# Altium integrated library Altium_WE-TPC_rev22d.IntLib: 258 symbols (part 1 of 5)
Pins are listed as number, name and electrical type; pins without a type are passive.

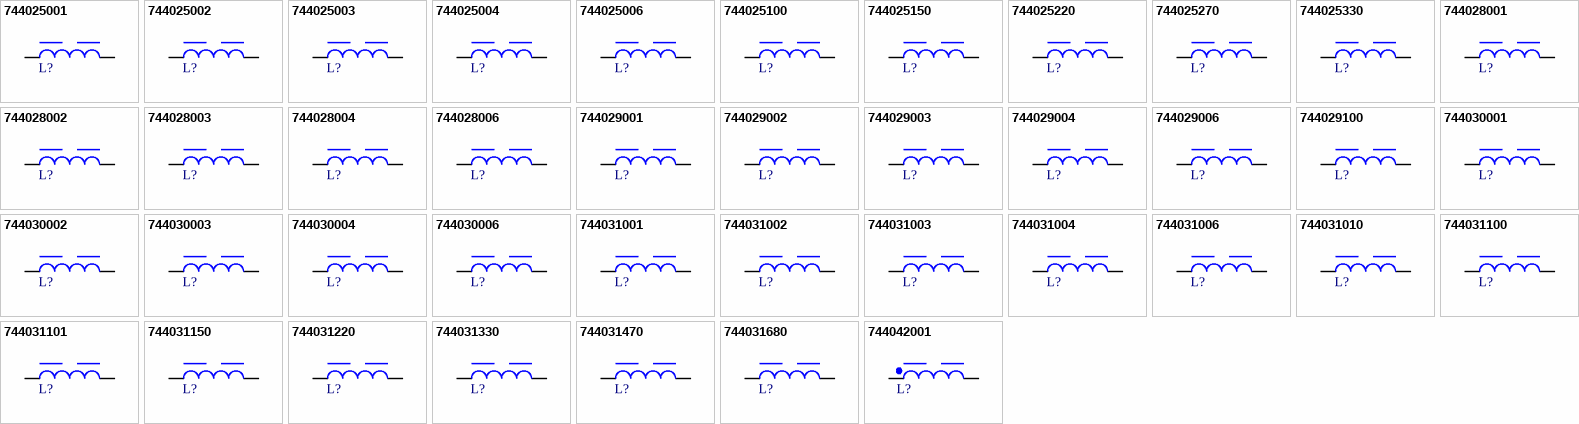
[diagram p0: symbols 744025001 to 744042001]

## 744025001
designator L?, comment 1.2uH, 2.6A  (value not drawn)
WE-TPC SMT Tiny Power Inductor, size 2828, 1.2uH, 2.6A, 36mOhm; Manufacturer Part Number: 744025001; Manufacturer: Wurth Elektronik; Case/Size Code: 2828; Saturation Current: 3A; Self Resonant Frequency: 180MHz; Category: Power Inductors; Match Code: WE-TPC; ComponentLink1Description: Website Link; ComponentLink1URL: https://www.we-online.com/redexpert/article/744025001?ad; ComponentLink2Description: Datasheet Link; ComponentLink2URL: https://www.we-online.com/redexpert/spec/744025001?ad; Mount: Surface Mount; Operating Temperature Max: 125°C; Operating Temperature Min: -40°C; Packaging: Tape and Reel; Length: 2.8mm; Width: 2.8mm; Height: 2.8mm; DC Resistance: 36mOhm; Inductance: 1.2uH; Rated Current: 2.6A
footprint WE-TPC_2828
simulation model 2828_744025001_1.2u
pins: 1, 2

## 744025002
designator L?, comment 2.2uH, 1.8A  (value not drawn)
WE-TPC SMT Tiny Power Inductor, size 2828, 2.2uH, 1.8A, 57mOhm; Manufacturer Part Number: 744025002; Manufacturer: Wurth Elektronik; Case/Size Code: 2828; Saturation Current: 2.4A; Self Resonant Frequency: 130MHz; Category: Power Inductors; Match Code: WE-TPC; ComponentLink1Description: Website Link; ComponentLink1URL: https://www.we-online.com/redexpert/article/744025002?ad; ComponentLink2Description: Datasheet Link; ComponentLink2URL: https://www.we-online.com/redexpert/spec/744025002?ad; Mount: Surface Mount; Operating Temperature Max: 125°C; Operating Temperature Min: -40°C; Packaging: Tape and Reel; Length: 2.8mm; Width: 2.8mm; Height: 2.8mm; DC Resistance: 57mOhm; Inductance: 2.2uH; Rated Current: 1.8A
footprint WE-TPC_2828
simulation model 2828_744025002_2.2u
pins: 1, 2

## 744025003
designator L?, comment 3.3uH, 1.5A  (value not drawn)
WE-TPC SMT Tiny Power Inductor, size 2828, 3.3uH, 1.5A, 85mOhm; Manufacturer Part Number: 744025003; Manufacturer: Wurth Elektronik; Case/Size Code: 2828; Saturation Current: 1.8A; Self Resonant Frequency: 100MHz; Category: Power Inductors; Match Code: WE-TPC; ComponentLink1Description: Website Link; ComponentLink1URL: https://www.we-online.com/redexpert/article/744025003?ad; ComponentLink2Description: Datasheet Link; ComponentLink2URL: https://www.we-online.com/redexpert/spec/744025003?ad; Mount: Surface Mount; Operating Temperature Max: 125°C; Operating Temperature Min: -40°C; Packaging: Tape and Reel; Length: 2.8mm; Width: 2.8mm; Height: 2.8mm; DC Resistance: 85mOhm; Inductance: 3.3uH; Rated Current: 1.5A
footprint WE-TPC_2828
simulation model 2828_744025003_3.3u
pins: 1, 2

## 744025004
designator L?, comment 4.7uH, 1.35A  (value not drawn)
WE-TPC SMT Tiny Power Inductor, size 2828, 4.7uH, 1.35A, 100mOhm; Manufacturer Part Number: 744025004; Manufacturer: Wurth Elektronik; Case/Size Code: 2828; Saturation Current: 1.7A; Self Resonant Frequency: 84MHz; Category: Power Inductors; Match Code: WE-TPC; ComponentLink1Description: Website Link; ComponentLink1URL: https://www.we-online.com/redexpert/article/744025004?ad; ComponentLink2Description: Datasheet Link; ComponentLink2URL: https://www.we-online.com/redexpert/spec/744025004?ad; Mount: Surface Mount; Operating Temperature Max: 125°C; Operating Temperature Min: -40°C; Packaging: Tape and Reel; Length: 2.8mm; Width: 2.8mm; Height: 2.8mm; DC Resistance: 100mOhm; Inductance: 4.7uH; Rated Current: 1.35A
footprint WE-TPC_2828
simulation model 2828_744025004_4.7u
pins: 1, 2

## 744025006
designator L?, comment 6.8uH, 1.1A  (value not drawn)
WE-TPC SMT Tiny Power Inductor, size 2828, 6.8uH, 1.1A, 142mOhm; Manufacturer Part Number: 744025006; Manufacturer: Wurth Elektronik; Case/Size Code: 2828; Saturation Current: 1.3A; Self Resonant Frequency: 59MHz; Category: Power Inductors; Match Code: WE-TPC; ComponentLink1Description: Website Link; ComponentLink1URL: https://www.we-online.com/redexpert/article/744025006?ad; ComponentLink2Description: Datasheet Link; ComponentLink2URL: https://www.we-online.com/redexpert/spec/744025006?ad; Mount: Surface Mount; Operating Temperature Max: 125°C; Operating Temperature Min: -40°C; Packaging: Tape and Reel; Length: 2.8mm; Width: 2.8mm; Height: 2.8mm; DC Resistance: 142mOhm; Inductance: 6.8uH; Rated Current: 1.1A
footprint WE-TPC_2828
simulation model 2828_744025006_6.8u
pins: 1, 2

## 744025100
designator L?, comment 10uH, 1A  (value not drawn)
WE-TPC SMT Tiny Power Inductor, size 2828, 10uH, 1A, 170mOhm; Manufacturer Part Number: 744025100; Manufacturer: Wurth Elektronik; Case/Size Code: 2828; Saturation Current: 1.1A; Self Resonant Frequency: 41MHz; Category: Power Inductors; Match Code: WE-TPC; ComponentLink1Description: Website Link; ComponentLink1URL: https://www.we-online.com/redexpert/article/744025100?ad; ComponentLink2Description: Datasheet Link; ComponentLink2URL: https://www.we-online.com/redexpert/spec/744025100?ad; Mount: Surface Mount; Operating Temperature Max: 125°C; Operating Temperature Min: -40°C; Packaging: Tape and Reel; Length: 2.8mm; Width: 2.8mm; Height: 2.8mm; DC Resistance: 170mOhm; Inductance: 10uH; Rated Current: 1A
footprint WE-TPC_2828
simulation model 2828_744025100_10u
pins: 1, 2

## 744025150
designator L?, comment 15uH, 0.72A  (value not drawn)
WE-TPC SMT Tiny Power Inductor, size 2828, 15uH, 0.72A, 356mOhm; Manufacturer Part Number: 744025150; Manufacturer: Wurth Elektronik; Case/Size Code: 2828; Saturation Current: 0.9A; Self Resonant Frequency: 32MHz; Category: Power Inductors; Match Code: WE-TPC; ComponentLink1Description: Website Link; ComponentLink1URL: https://www.we-online.com/redexpert/article/744025150?ad; ComponentLink2Description: Datasheet Link; ComponentLink2URL: https://www.we-online.com/redexpert/spec/744025150?ad; Mount: Surface Mount; Operating Temperature Max: 125°C; Operating Temperature Min: -40°C; Packaging: Tape and Reel; Length: 2.8mm; Width: 2.8mm; Height: 2.8mm; DC Resistance: 356mOhm; Inductance: 15uH; Rated Current: 0.72A
footprint WE-TPC_2828
simulation model 2828_744025150_15u
pins: 1, 2

## 744025220
designator L?, comment 22uH, 0.5A  (value not drawn)
WE-TPC SMT Tiny Power Inductor, size 2828, 22uH, 0.5A, 525mOhm; Manufacturer Part Number: 744025220; Manufacturer: Wurth Elektronik; Case/Size Code: 2828; Saturation Current: 0.75A; Self Resonant Frequency: 23MHz; Category: Power Inductors; Match Code: WE-TPC; ComponentLink1Description: Website Link; ComponentLink1URL: https://www.we-online.com/redexpert/article/744025220?ad; ComponentLink2Description: Datasheet Link; ComponentLink2URL: https://www.we-online.com/redexpert/spec/744025220?ad; Mount: Surface Mount; Operating Temperature Max: 125°C; Operating Temperature Min: -40°C; Packaging: Tape and Reel; Length: 2.8mm; Width: 2.8mm; Height: 2.8mm; DC Resistance: 525mOhm; Inductance: 22uH; Rated Current: 0.5A
footprint WE-TPC_2828
simulation model 2828_744025220_22u
pins: 1, 2

## 744025270
designator L?, comment 27uH, 0.45A  (value not drawn)
WE-TPC SMT Tiny Power Inductor, size 2828, 27uH, 0.45A, 745mOhm; Manufacturer Part Number: 744025270; Manufacturer: Wurth Elektronik; Case/Size Code: 2828; Saturation Current: 0.67A; Self Resonant Frequency: 15MHz; Category: Power Inductors; Match Code: WE-TPC; ComponentLink1Description: Website Link; ComponentLink1URL: https://www.we-online.com/redexpert/article/744025270?ad; ComponentLink2Description: Datasheet Link; ComponentLink2URL: https://www.we-online.com/redexpert/spec/744025270?ad; Mount: Surface Mount; Operating Temperature Max: 125°C; Operating Temperature Min: -40°C; Packaging: Tape and Reel; Length: 2.8mm; Width: 2.8mm; Height: 2.8mm; DC Resistance: 745mOhm; Inductance: 27uH; Rated Current: 0.45A
footprint WE-TPC_2828
simulation model 2828_744025270_27u
pins: 1, 2

## 744025330
designator L?, comment 33uH, 0.4A  (value not drawn)
WE-TPC SMT Tiny Power Inductor, size 2828, 33uH, 0.4A, 840mOhm; Manufacturer Part Number: 744025330; Manufacturer: Wurth Elektronik; Case/Size Code: 2828; Saturation Current: 0.62A; Self Resonant Frequency: 12MHz; Category: Power Inductors; Match Code: WE-TPC; ComponentLink1Description: Website Link; ComponentLink1URL: https://www.we-online.com/redexpert/article/744025330?ad; ComponentLink2Description: Datasheet Link; ComponentLink2URL: https://www.we-online.com/redexpert/spec/744025330?ad; Mount: Surface Mount; Operating Temperature Max: 125°C; Operating Temperature Min: -40°C; Packaging: Tape and Reel; Length: 2.8mm; Width: 2.8mm; Height: 2.8mm; DC Resistance: 840mOhm; Inductance: 33uH; Rated Current: 0.4A
footprint WE-TPC_2828
simulation model 2828_744025330_33u
pins: 1, 2

## 744028001
designator L?, comment 1uH, 1.75A  (value not drawn)
WE-TPC SMT Tiny Power Inductor, size 2811, 1uH, 1.75A, 65mOhm; Manufacturer Part Number: 744028001; Manufacturer: Wurth Elektronik; Case/Size Code: 2811; Saturation Current: 1.5A; Self Resonant Frequency: 150MHz; Category: Power Inductors; Match Code: WE-TPC; ComponentLink1Description: Website Link; ComponentLink1URL: https://www.we-online.com/redexpert/article/744028001?ad; ComponentLink2Description: Datasheet Link; ComponentLink2URL: https://www.we-online.com/redexpert/spec/744028001?ad; Mount: Surface Mount; Operating Temperature Max: 125°C; Operating Temperature Min: -40°C; Packaging: Tape and Reel; Length: 2.78mm; Width: 2.78mm; Height: 1.1mm; DC Resistance: 65mOhm; Inductance: 1uH; Rated Current: 1.75A
footprint WE-TPC_2811
simulation model 2811_744028001_1u
pins: 1, 2

## 744028002
designator L?, comment 2.2uH, 1.3A  (value not drawn)
WE-TPC SMT Tiny Power Inductor, size 2811, 2.2uH, 1.3A, 125mOhm; Manufacturer Part Number: 744028002; Manufacturer: Wurth Elektronik; Case/Size Code: 2811; Saturation Current: 1A; Self Resonant Frequency: 100MHz; Category: Power Inductors; Match Code: WE-TPC; ComponentLink1Description: Website Link; ComponentLink1URL: https://www.we-online.com/redexpert/article/744028002?ad; ComponentLink2Description: Datasheet Link; ComponentLink2URL: https://www.we-online.com/redexpert/spec/744028002?ad; Mount: Surface Mount; Operating Temperature Max: 125°C; Operating Temperature Min: -40°C; Packaging: Tape and Reel; Length: 2.78mm; Width: 2.78mm; Height: 1.1mm; DC Resistance: 125mOhm; Inductance: 2.2uH; Rated Current: 1.3A
footprint WE-TPC_2811
simulation model 2811_744028002_2.2u
pins: 1, 2

## 744028003
designator L?, comment 3.3uH, 1A  (value not drawn)
WE-TPC SMT Tiny Power Inductor, size 2811, 3.3uH, 1A, 185mOhm; Manufacturer Part Number: 744028003; Manufacturer: Wurth Elektronik; Case/Size Code: 2811; Saturation Current: 0.85A; Self Resonant Frequency: 80MHz; Category: Power Inductors; Match Code: WE-TPC; ComponentLink1Description: Website Link; ComponentLink1URL: https://www.we-online.com/redexpert/article/744028003?ad; ComponentLink2Description: Datasheet Link; ComponentLink2URL: https://www.we-online.com/redexpert/spec/744028003?ad; Mount: Surface Mount; Operating Temperature Max: 125°C; Operating Temperature Min: -40°C; Packaging: Tape and Reel; Length: 2.78mm; Width: 2.78mm; Height: 1.1mm; DC Resistance: 185mOhm; Inductance: 3.3uH; Rated Current: 1A
footprint WE-TPC_2811
simulation model 2811_744028003_3.3u
pins: 1, 2

## 744028004
designator L?, comment 4.7uH, 0.85A  (value not drawn)
WE-TPC SMT Tiny Power Inductor, size 2811, 4.7uH, 0.85A, 265mOhm; Manufacturer Part Number: 744028004; Manufacturer: Wurth Elektronik; Case/Size Code: 2811; Saturation Current: 0.7A; Self Resonant Frequency: 70MHz; Category: Power Inductors; Match Code: WE-TPC; ComponentLink1Description: Website Link; ComponentLink1URL: https://www.we-online.com/redexpert/article/744028004?ad; ComponentLink2Description: Datasheet Link; ComponentLink2URL: https://www.we-online.com/redexpert/spec/744028004?ad; Mount: Surface Mount; Operating Temperature Max: 125°C; Operating Temperature Min: -40°C; Packaging: Tape and Reel; Length: 2.78mm; Width: 2.78mm; Height: 1.1mm; DC Resistance: 265mOhm; Inductance: 4.7uH; Rated Current: 0.85A
footprint WE-TPC_2811
simulation model 2811_744028004_4.7u
pins: 1, 2

## 744028006
designator L?, comment 6.8uH, 0.75A  (value not drawn)
WE-TPC SMT Tiny Power Inductor, size 2811, 6.8uH, 0.75A, 325mOhm; Manufacturer Part Number: 744028006; Manufacturer: Wurth Elektronik; Case/Size Code: 2811; Saturation Current: 0.55A; Self Resonant Frequency: 60MHz; Category: Power Inductors; Match Code: WE-TPC; ComponentLink1Description: Website Link; ComponentLink1URL: https://www.we-online.com/redexpert/article/744028006?ad; ComponentLink2Description: Datasheet Link; ComponentLink2URL: https://www.we-online.com/redexpert/spec/744028006?ad; Mount: Surface Mount; Operating Temperature Max: 125°C; Operating Temperature Min: -40°C; Packaging: Tape and Reel; Length: 2.78mm; Width: 2.78mm; Height: 1.1mm; DC Resistance: 325mOhm; Inductance: 6.8uH; Rated Current: 0.75A
footprint WE-TPC_2811
simulation model 2811_744028006_6.8u
pins: 1, 2

## 744029001
designator L?, comment 1uH, 2.2A  (value not drawn)
WE-TPC SMT Tiny Power Inductor, size 2813, 1uH, 2.2A, 45mOhm; Manufacturer Part Number: 744029001; Manufacturer: Wurth Elektronik; Case/Size Code: 2813; Saturation Current: 1.6A; Self Resonant Frequency: 150MHz; Category: Power Inductors; Match Code: WE-TPC; ComponentLink1Description: Website Link; ComponentLink1URL: https://www.we-online.com/redexpert/article/744029001?ad; ComponentLink2Description: Datasheet Link; ComponentLink2URL: https://www.we-online.com/redexpert/spec/744029001?ad; Mount: Surface Mount; Operating Temperature Max: 125°C; Operating Temperature Min: -40°C; Packaging: Tape and Reel; Length: 2.78mm; Width: 2.78mm; Height: 1.35mm; DC Resistance: 45mOhm; Inductance: 1uH; Rated Current: 2.2A
footprint WE-TPC_2813
simulation model 2813_744029001_1u
pins: 1, 2

## 744029002
designator L?, comment 2.2uH, 1.5A  (value not drawn)
WE-TPC SMT Tiny Power Inductor, size 2813, 2.2uH, 1.5A, 88mOhm; Manufacturer Part Number: 744029002; Manufacturer: Wurth Elektronik; Case/Size Code: 2813; Saturation Current: 1.15A; Self Resonant Frequency: 90MHz; Category: Power Inductors; Match Code: WE-TPC; ComponentLink1Description: Website Link; ComponentLink1URL: https://www.we-online.com/redexpert/article/744029002?ad; ComponentLink2Description: Datasheet Link; ComponentLink2URL: https://www.we-online.com/redexpert/spec/744029002?ad; Mount: Surface Mount; Operating Temperature Max: 125°C; Operating Temperature Min: -40°C; Packaging: Tape and Reel; Length: 2.78mm; Width: 2.78mm; Height: 1.35mm; DC Resistance: 88mOhm; Inductance: 2.2uH; Rated Current: 1.5A
footprint WE-TPC_2813
simulation model 2813_744029002_2.2u
pins: 1, 2

## 744029003
designator L?, comment 3.3uH, 1.25A  (value not drawn)
WE-TPC SMT Tiny Power Inductor, size 2813, 3.3uH, 1.25A, 110mOhm; Manufacturer Part Number: 744029003; Manufacturer: Wurth Elektronik; Case/Size Code: 2813; Saturation Current: 0.95A; Self Resonant Frequency: 70MHz; Category: Power Inductors; Match Code: WE-TPC; ComponentLink1Description: Website Link; ComponentLink1URL: https://www.we-online.com/redexpert/article/744029003?ad; ComponentLink2Description: Datasheet Link; ComponentLink2URL: https://www.we-online.com/redexpert/spec/744029003?ad; Mount: Surface Mount; Operating Temperature Max: 125°C; Operating Temperature Min: -40°C; Packaging: Tape and Reel; Length: 2.78mm; Width: 2.78mm; Height: 1.35mm; DC Resistance: 110mOhm; Inductance: 3.3uH; Rated Current: 1.25A
footprint WE-TPC_2813
simulation model 2813_744029003_3.3u
pins: 1, 2

## 744029004
designator L?, comment 4.7uH, 1A  (value not drawn)
WE-TPC SMT Tiny Power Inductor, size 2813, 4.7uH, 1A, 170mOhm; Manufacturer Part Number: 744029004; Manufacturer: Wurth Elektronik; Case/Size Code: 2813; Saturation Current: 0.8A; Self Resonant Frequency: 65MHz; Category: Power Inductors; Match Code: WE-TPC; ComponentLink1Description: Website Link; ComponentLink1URL: https://www.we-online.com/redexpert/article/744029004?ad; ComponentLink2Description: Datasheet Link; ComponentLink2URL: https://www.we-online.com/redexpert/spec/744029004?ad; Mount: Surface Mount; Operating Temperature Max: 125°C; Operating Temperature Min: -40°C; Packaging: Tape and Reel; Length: 2.78mm; Width: 2.78mm; Height: 1.35mm; DC Resistance: 170mOhm; Inductance: 4.7uH; Rated Current: 1A
footprint WE-TPC_2813
simulation model 2813_744029004_4.7u
pins: 1, 2

## 744029006
designator L?, comment 6.8uH, 0.82A  (value not drawn)
WE-TPC SMT Tiny Power Inductor, size 2813, 6.8uH, 0.82A, 250mOhm; Manufacturer Part Number: 744029006; Manufacturer: Wurth Elektronik; Case/Size Code: 2813; Saturation Current: 0.65A; Self Resonant Frequency: 55MHz; Category: Power Inductors; Match Code: WE-TPC; ComponentLink1Description: Website Link; ComponentLink1URL: https://www.we-online.com/redexpert/article/744029006?ad; ComponentLink2Description: Datasheet Link; ComponentLink2URL: https://www.we-online.com/redexpert/spec/744029006?ad; Mount: Surface Mount; Operating Temperature Max: 125°C; Operating Temperature Min: -40°C; Packaging: Tape and Reel; Length: 2.78mm; Width: 2.78mm; Height: 1.35mm; DC Resistance: 250mOhm; Inductance: 6.8uH; Rated Current: 0.82A
footprint WE-TPC_2813
simulation model 2813_744029006_6.8u
pins: 1, 2

## 744029100
designator L?, comment 10uH, 0.65A  (value not drawn)
WE-TPC SMT Tiny Power Inductor, size 2813, 10uH, 0.65A, 390mOhm; Manufacturer Part Number: 744029100; Manufacturer: Wurth Elektronik; Case/Size Code: 2813; Saturation Current: 0.5A; Self Resonant Frequency: 40MHz; Category: Power Inductors; Match Code: WE-TPC; ComponentLink1Description: Website Link; ComponentLink1URL: https://www.we-online.com/redexpert/article/744029100?ad; ComponentLink2Description: Datasheet Link; ComponentLink2URL: https://www.we-online.com/redexpert/spec/744029100?ad; Mount: Surface Mount; Operating Temperature Max: 125°C; Operating Temperature Min: -40°C; Packaging: Tape and Reel; Length: 2.78mm; Width: 2.78mm; Height: 1.35mm; DC Resistance: 390mOhm; Inductance: 10uH; Rated Current: 0.65A
footprint WE-TPC_2813
simulation model 2813_744029100_10u
pins: 1, 2

## 744030001
designator L?, comment 1.2uH, 1A  (value not drawn)
WE-TPC SMT Tiny Power Inductor, size 3510, 1.2uH, 1A, 95mOhm; Manufacturer Part Number: 744030001; Manufacturer: Wurth Elektronik; Case/Size Code: 3510; Saturation Current: 1.1A; Self Resonant Frequency: 210MHz; Category: Power Inductors; Match Code: WE-TPC; ComponentLink1Description: Website Link; ComponentLink1URL: https://www.we-online.com/redexpert/article/744030001?ad; ComponentLink2Description: Datasheet Link; ComponentLink2URL: https://www.we-online.com/redexpert/spec/744030001?ad; Mount: Surface Mount; Operating Temperature Max: 125°C; Operating Temperature Min: -40°C; Packaging: Tape and Reel; Length: 3.3mm; Width: 3.5mm; Height: 0.95mm; DC Resistance: 95mOhm; Inductance: 1.2uH; Rated Current: 1A
footprint WE-TPC_3510
simulation model 3510_744030001_1.2u
pins: 1, 2

## 744030002
designator L?, comment 2.2uH, 0.74A  (value not drawn)
WE-TPC SMT Tiny Power Inductor, size 3510, 2.2uH, 0.74A, 140mOhm; Manufacturer Part Number: 744030002; Manufacturer: Wurth Elektronik; Case/Size Code: 3510; Saturation Current: 0.8A; Self Resonant Frequency: 140MHz; Category: Power Inductors; Match Code: WE-TPC; ComponentLink1Description: Website Link; ComponentLink1URL: https://www.we-online.com/redexpert/article/744030002?ad; ComponentLink2Description: Datasheet Link; ComponentLink2URL: https://www.we-online.com/redexpert/spec/744030002?ad; Mount: Surface Mount; Operating Temperature Max: 125°C; Operating Temperature Min: -40°C; Packaging: Tape and Reel; Length: 3.3mm; Width: 3.5mm; Height: 0.95mm; DC Resistance: 140mOhm; Inductance: 2.2uH; Rated Current: 0.74A
footprint WE-TPC_3510
simulation model 3510_744030002_2.2u
pins: 1, 2

## 744030003
designator L?, comment 3.3uH, 0.65A  (value not drawn)
WE-TPC SMT Tiny Power Inductor, size 3510, 3.3uH, 0.65A, 198mOhm; Manufacturer Part Number: 744030003; Manufacturer: Wurth Elektronik; Case/Size Code: 3510; Saturation Current: 0.72A; Self Resonant Frequency: 130MHz; Category: Power Inductors; Match Code: WE-TPC; ComponentLink1Description: Website Link; ComponentLink1URL: https://www.we-online.com/redexpert/article/744030003?ad; ComponentLink2Description: Datasheet Link; ComponentLink2URL: https://www.we-online.com/redexpert/spec/744030003?ad; Mount: Surface Mount; Operating Temperature Max: 125°C; Operating Temperature Min: -40°C; Packaging: Tape and Reel; Length: 3.3mm; Width: 3.5mm; Height: 0.95mm; DC Resistance: 198mOhm; Inductance: 3.3uH; Rated Current: 0.65A
footprint WE-TPC_3510
simulation model 3510_744030003_3.3u
pins: 1, 2

## 744030004
designator L?, comment 4.7uH, 0.48A  (value not drawn)
WE-TPC SMT Tiny Power Inductor, size 3510, 4.7uH, 0.48A, 252mOhm; Manufacturer Part Number: 744030004; Manufacturer: Wurth Elektronik; Case/Size Code: 3510; Saturation Current: 0.5A; Self Resonant Frequency: 100MHz; Category: Power Inductors; Match Code: WE-TPC; ComponentLink1Description: Website Link; ComponentLink1URL: https://www.we-online.com/redexpert/article/744030004?ad; ComponentLink2Description: Datasheet Link; ComponentLink2URL: https://www.we-online.com/redexpert/spec/744030004?ad; Mount: Surface Mount; Operating Temperature Max: 125°C; Operating Temperature Min: -40°C; Packaging: Tape and Reel; Length: 3.3mm; Width: 3.5mm; Height: 0.95mm; DC Resistance: 252mOhm; Inductance: 4.7uH; Rated Current: 0.48A
footprint WE-TPC_3510
simulation model 3510_744030004_4.7u
pins: 1, 2

## 744030006
designator L?, comment 6.8uH, 0.4A  (value not drawn)
WE-TPC SMT Tiny Power Inductor, size 3510, 6.8uH, 0.4A, 400mOhm; Manufacturer Part Number: 744030006; Manufacturer: Wurth Elektronik; Case/Size Code: 3510; Saturation Current: 0.43A; Self Resonant Frequency: 85MHz; Category: Power Inductors; Match Code: WE-TPC; ComponentLink1Description: Website Link; ComponentLink1URL: https://www.we-online.com/redexpert/article/744030006?ad; ComponentLink2Description: Datasheet Link; ComponentLink2URL: https://www.we-online.com/redexpert/spec/744030006?ad; Mount: Surface Mount; Operating Temperature Max: 125°C; Operating Temperature Min: -40°C; Packaging: Tape and Reel; Length: 3.3mm; Width: 3.5mm; Height: 0.95mm; DC Resistance: 400mOhm; Inductance: 6.8uH; Rated Current: 0.4A
footprint WE-TPC_3510
simulation model 3510_744030006_6.8u
pins: 1, 2

## 744031001
designator L?, comment 1.5uH, 1.75A  (value not drawn)
WE-TPC SMT Tiny Power Inductor, size 3816, 1.5uH, 1.75A, 40mOhm; Manufacturer Part Number: 744031001; Manufacturer: Wurth Elektronik; Case/Size Code: 3816; Saturation Current: 1.55A; Self Resonant Frequency: 125MHz; Category: Power Inductors; Match Code: WE-TPC; ComponentLink1Description: Website Link; ComponentLink1URL: https://www.we-online.com/redexpert/article/744031001?ad; ComponentLink2Description: Datasheet Link; ComponentLink2URL: https://www.we-online.com/redexpert/spec/744031001?ad; Mount: Surface Mount; Operating Temperature Max: 125°C; Operating Temperature Min: -40°C; Packaging: Tape and Reel; Length: 3.8mm; Width: 3.8mm; Height: 1.65mm; DC Resistance: 40mOhm; Inductance: 1.5uH; Rated Current: 1.75A
footprint WE-TPC_3816
simulation model 3816_744031001_1.5u
pins: 1, 2

## 744031002
designator L?, comment 2.5uH, 1.45A  (value not drawn)
WE-TPC SMT Tiny Power Inductor, size 3816, 2.5uH, 1.45A, 50mOhm; Manufacturer Part Number: 744031002; Manufacturer: Wurth Elektronik; Case/Size Code: 3816; Saturation Current: 1.25A; Self Resonant Frequency: 120MHz; Category: Power Inductors; Match Code: WE-TPC; ComponentLink1Description: Website Link; ComponentLink1URL: https://www.we-online.com/redexpert/article/744031002?ad; ComponentLink2Description: Datasheet Link; ComponentLink2URL: https://www.we-online.com/redexpert/spec/744031002?ad; Mount: Surface Mount; Operating Temperature Max: 125°C; Operating Temperature Min: -40°C; Packaging: Tape and Reel; Length: 3.8mm; Width: 3.8mm; Height: 1.65mm; DC Resistance: 50mOhm; Inductance: 2.5uH; Rated Current: 1.45A
footprint WE-TPC_3816
simulation model 3816_744031002_2.5u
pins: 1, 2

## 744031003
designator L?, comment 3.6uH, 1.38A  (value not drawn)
WE-TPC SMT Tiny Power Inductor, size 3816, 3.6uH, 1.38A, 66mOhm; Manufacturer Part Number: 744031003; Manufacturer: Wurth Elektronik; Case/Size Code: 3816; Saturation Current: 1.1A; Self Resonant Frequency: 80MHz; Category: Power Inductors; Match Code: WE-TPC; ComponentLink1Description: Website Link; ComponentLink1URL: https://www.we-online.com/redexpert/article/744031003?ad; ComponentLink2Description: Datasheet Link; ComponentLink2URL: https://www.we-online.com/redexpert/spec/744031003?ad; Mount: Surface Mount; Operating Temperature Max: 125°C; Operating Temperature Min: -40°C; Packaging: Tape and Reel; Length: 3.8mm; Width: 3.8mm; Height: 1.65mm; DC Resistance: 66mOhm; Inductance: 3.6uH; Rated Current: 1.38A
footprint WE-TPC_3816
simulation model 3816_744031003_3.6u
pins: 1, 2

## 744031004
designator L?, comment 4.7uH, 1.2A  (value not drawn)
WE-TPC SMT Tiny Power Inductor, size 3816, 4.7uH, 1.2A, 90mOhm; Manufacturer Part Number: 744031004; Manufacturer: Wurth Elektronik; Case/Size Code: 3816; Saturation Current: 0.9A; Self Resonant Frequency: 75MHz; Category: Power Inductors; Match Code: WE-TPC; ComponentLink1Description: Website Link; ComponentLink1URL: https://www.we-online.com/redexpert/article/744031004?ad; ComponentLink2Description: Datasheet Link; ComponentLink2URL: https://www.we-online.com/redexpert/spec/744031004?ad; Mount: Surface Mount; Operating Temperature Max: 125°C; Operating Temperature Min: -40°C; Packaging: Tape and Reel; Length: 3.8mm; Width: 3.8mm; Height: 1.65mm; DC Resistance: 90mOhm; Inductance: 4.7uH; Rated Current: 1.2A
footprint WE-TPC_3816
simulation model 3816_744031004_4.7u
pins: 1, 2

## 744031006
designator L?, comment 6.8uH, 0.85A  (value not drawn)
WE-TPC SMT Tiny Power Inductor, size 3816, 6.8uH, 0.85A, 135mOhm; Manufacturer Part Number: 744031006; Manufacturer: Wurth Elektronik; Case/Size Code: 3816; Saturation Current: 0.75A; Self Resonant Frequency: 45MHz; Category: Power Inductors; Match Code: WE-TPC; ComponentLink1Description: Website Link; ComponentLink1URL: https://www.we-online.com/redexpert/article/744031006?ad; ComponentLink2Description: Datasheet Link; ComponentLink2URL: https://www.we-online.com/redexpert/spec/744031006?ad; Mount: Surface Mount; Operating Temperature Max: 125°C; Operating Temperature Min: -40°C; Packaging: Tape and Reel; Length: 3.8mm; Width: 3.8mm; Height: 1.65mm; DC Resistance: 135mOhm; Inductance: 6.8uH; Rated Current: 0.85A
footprint WE-TPC_3816
simulation model 3816_744031006_6.8u
pins: 1, 2

## 744031010
designator L?, comment 1uH, 2A  (value not drawn)
WE-TPC SMT Tiny Power Inductor, size 3816, 1uH, 2A, 26mOhm; Manufacturer Part Number: 744031010; Manufacturer: Wurth Elektronik; Case/Size Code: 3816; Saturation Current: 1.6A; Self Resonant Frequency: 144MHz; Category: Power Inductors; Match Code: WE-TPC; ComponentLink1Description: Website Link; ComponentLink1URL: https://www.we-online.com/redexpert/article/744031010?ad; ComponentLink2Description: Datasheet Link; ComponentLink2URL: https://www.we-online.com/redexpert/spec/744031010?ad; Mount: Surface Mount; Operating Temperature Max: 125°C; Operating Temperature Min: -40°C; Packaging: Tape and Reel; Length: 3.8mm; Width: 3.8mm; Height: 1.65mm; DC Resistance: 26mOhm; Inductance: 1uH; Rated Current: 2A
footprint WE-TPC_3816
simulation model 3816_744031010_1u
pins: 1, 2

## 744031100
designator L?, comment 10uH, 0.74A  (value not drawn)
WE-TPC SMT Tiny Power Inductor, size 3816, 10uH, 0.74A, 185mOhm; Manufacturer Part Number: 744031100; Manufacturer: Wurth Elektronik; Case/Size Code: 3816; Saturation Current: 0.56A; Self Resonant Frequency: 45MHz; Category: Power Inductors; Match Code: WE-TPC; ComponentLink1Description: Website Link; ComponentLink1URL: https://www.we-online.com/redexpert/article/744031100?ad; ComponentLink2Description: Datasheet Link; ComponentLink2URL: https://www.we-online.com/redexpert/spec/744031100?ad; Mount: Surface Mount; Operating Temperature Max: 125°C; Operating Temperature Min: -40°C; Packaging: Tape and Reel; Length: 3.8mm; Width: 3.8mm; Height: 1.65mm; DC Resistance: 185mOhm; Inductance: 10uH; Rated Current: 0.74A
footprint WE-TPC_3816
simulation model 3816_744031100_10u
pins: 1, 2

## 744031101
designator L?, comment 100uH, 0.25A  (value not drawn)
WE-TPC SMT Tiny Power Inductor, size 3816, 100uH, 0.25A, 1930mOhm; Manufacturer Part Number: 744031101; Manufacturer: Wurth Elektronik; Case/Size Code: 3816; Saturation Current: 0.18A; Self Resonant Frequency: 10MHz; Category: Power Inductors; Match Code: WE-TPC; ComponentLink1Description: Website Link; ComponentLink1URL: https://www.we-online.com/redexpert/article/744031101?ad; ComponentLink2Description: Datasheet Link; ComponentLink2URL: https://www.we-online.com/redexpert/spec/744031101?ad; Mount: Surface Mount; Operating Temperature Max: 125°C; Operating Temperature Min: -40°C; Packaging: Tape and Reel; Length: 3.8mm; Width: 3.8mm; Height: 1.65mm; DC Resistance: 1930mOhm; Inductance: 100uH; Rated Current: 0.25A
footprint WE-TPC_3816
simulation model 3816_744031101_100u
pins: 1, 2

## 744031150
designator L?, comment 15uH, 0.62A  (value not drawn)
WE-TPC SMT Tiny Power Inductor, size 3816, 15uH, 0.62A, 255mOhm; Manufacturer Part Number: 744031150; Manufacturer: Wurth Elektronik; Case/Size Code: 3816; Saturation Current: 0.45A; Self Resonant Frequency: 30MHz; Category: Power Inductors; Match Code: WE-TPC; ComponentLink1Description: Website Link; ComponentLink1URL: https://www.we-online.com/redexpert/article/744031150?ad; ComponentLink2Description: Datasheet Link; ComponentLink2URL: https://www.we-online.com/redexpert/spec/744031150?ad; Mount: Surface Mount; Operating Temperature Max: 125°C; Operating Temperature Min: -40°C; Packaging: Tape and Reel; Length: 3.8mm; Width: 3.8mm; Height: 1.65mm; DC Resistance: 255mOhm; Inductance: 15uH; Rated Current: 0.62A
footprint WE-TPC_3816
simulation model 3816_744031150_15u
pins: 1, 2

## 744031220
designator L?, comment 22uH, 0.51A  (value not drawn)
WE-TPC SMT Tiny Power Inductor, size 3816, 22uH, 0.51A, 410mOhm; Manufacturer Part Number: 744031220; Manufacturer: Wurth Elektronik; Case/Size Code: 3816; Saturation Current: 0.36A; Self Resonant Frequency: 26MHz; Category: Power Inductors; Match Code: WE-TPC; ComponentLink1Description: Website Link; ComponentLink1URL: https://www.we-online.com/redexpert/article/744031220?ad; ComponentLink2Description: Datasheet Link; ComponentLink2URL: https://www.we-online.com/redexpert/spec/744031220?ad; Mount: Surface Mount; Operating Temperature Max: 125°C; Operating Temperature Min: -40°C; Packaging: Tape and Reel; Length: 3.8mm; Width: 3.8mm; Height: 1.65mm; DC Resistance: 410mOhm; Inductance: 22uH; Rated Current: 0.51A
footprint WE-TPC_3816
simulation model 3816_744031220_22u
pins: 1, 2

## 744031330
designator L?, comment 33uH, 0.42A  (value not drawn)
WE-TPC SMT Tiny Power Inductor, size 3816, 33uH, 0.42A, 635mOhm; Manufacturer Part Number: 744031330; Manufacturer: Wurth Elektronik; Case/Size Code: 3816; Saturation Current: 0.32A; Self Resonant Frequency: 25MHz; Category: Power Inductors; Match Code: WE-TPC; ComponentLink1Description: Website Link; ComponentLink1URL: https://www.we-online.com/redexpert/article/744031330?ad; ComponentLink2Description: Datasheet Link; ComponentLink2URL: https://www.we-online.com/redexpert/spec/744031330?ad; Mount: Surface Mount; Operating Temperature Max: 125°C; Operating Temperature Min: -40°C; Packaging: Tape and Reel; Length: 3.8mm; Width: 3.8mm; Height: 1.65mm; DC Resistance: 635mOhm; Inductance: 33uH; Rated Current: 0.42A
footprint WE-TPC_3816
simulation model 3816_744031330_33u
pins: 1, 2

## 744031470
designator L?, comment 47uH, 0.39A  (value not drawn)
WE-TPC SMT Tiny Power Inductor, size 3816, 47uH, 0.39A, 940mOhm; Manufacturer Part Number: 744031470; Manufacturer: Wurth Elektronik; Case/Size Code: 3816; Saturation Current: 0.25A; Self Resonant Frequency: 20MHz; Category: Power Inductors; Match Code: WE-TPC; ComponentLink1Description: Website Link; ComponentLink1URL: https://www.we-online.com/redexpert/article/744031470?ad; ComponentLink2Description: Datasheet Link; ComponentLink2URL: https://www.we-online.com/redexpert/spec/744031470?ad; Mount: Surface Mount; Operating Temperature Max: 125°C; Operating Temperature Min: -40°C; Packaging: Tape and Reel; Length: 3.8mm; Width: 3.8mm; Height: 1.65mm; DC Resistance: 940mOhm; Inductance: 47uH; Rated Current: 0.39A
footprint WE-TPC_3816
simulation model 3816_744031470_47u
pins: 1, 2

## 744031680
designator L?, comment 68uH, 0.32A  (value not drawn)
WE-TPC SMT Tiny Power Inductor, size 3816, 68uH, 0.32A, 1150mOhm; Manufacturer Part Number: 744031680; Manufacturer: Wurth Elektronik; Case/Size Code: 3816; Saturation Current: 0.22A; Self Resonant Frequency: 12MHz; Category: Power Inductors; Match Code: WE-TPC; ComponentLink1Description: Website Link; ComponentLink1URL: https://www.we-online.com/redexpert/article/744031680?ad; ComponentLink2Description: Datasheet Link; ComponentLink2URL: https://www.we-online.com/redexpert/spec/744031680?ad; Mount: Surface Mount; Operating Temperature Max: 125°C; Operating Temperature Min: -40°C; Packaging: Tape and Reel; Length: 3.8mm; Width: 3.8mm; Height: 1.65mm; DC Resistance: 1150mOhm; Inductance: 68uH; Rated Current: 0.32A
footprint WE-TPC_3816
simulation model 3816_744031680_68u
pins: 1, 2

## 744042001
designator L?, comment 1uH, 2.7A  (value not drawn)
WE-TPC SMT Tiny Power Inductor, size 4818, 1uH, 2.7A, 20mOhm; Manufacturer Part Number: 744042001; Manufacturer: Wurth Elektronik; Case/Size Code: 4818; Saturation Current: 2.6A; Self Resonant Frequency: 177MHz; Category: Power Inductors; Match Code: WE-TPC; ComponentLink1Description: Website Link; ComponentLink1URL: https://www.we-online.com/redexpert/article/744042001?ad; ComponentLink2Description: Datasheet Link; ComponentLink2URL: https://www.we-online.com/redexpert/spec/744042001?ad; Mount: Surface Mount; Operating Temperature Max: 125°C; Operating Temperature Min: -40°C; Packaging: Tape and Reel; Length: 4.8mm; Width: 4.8mm; Height: 1.8mm; DC Resistance: 20mOhm; Inductance: 1uH; Rated Current: 2.7A
footprint WE-TPC_4818
simulation model 4818_744042001_1u
pins: 1, 2

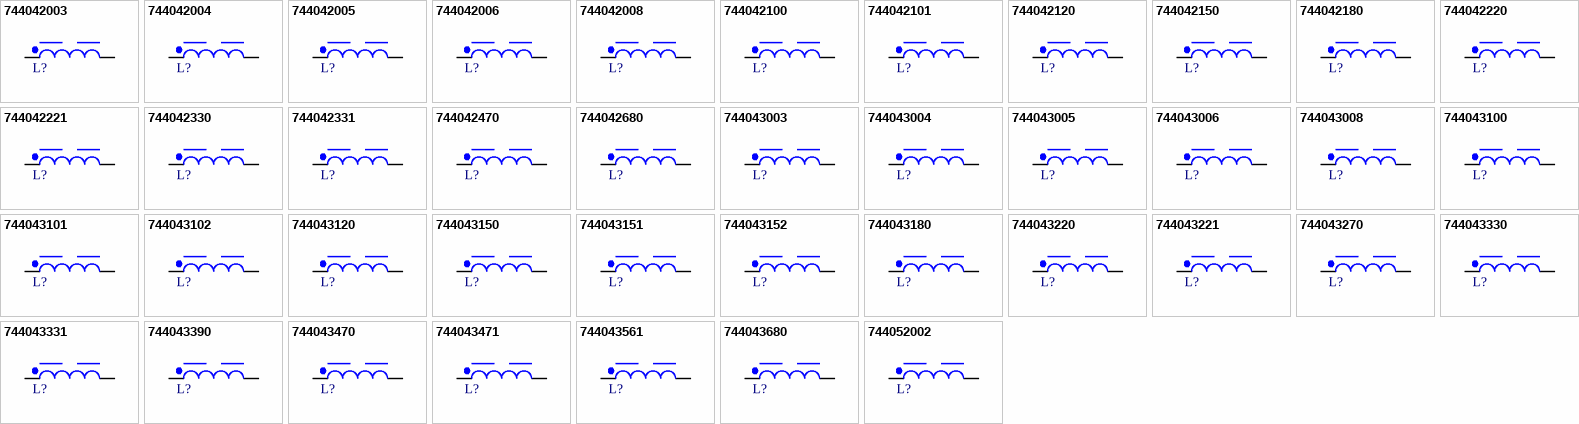
[diagram p1: symbols 744042003 to 744052002]

## 744042003
designator L?, comment 3.3uH, 1.95A  (value not drawn)
WE-TPC SMT Tiny Power Inductor, size 4818, 3.3uH, 1.95A, 50mOhm; Manufacturer Part Number: 744042003; Manufacturer: Wurth Elektronik; Case/Size Code: 4818; Saturation Current: 1.8A; Self Resonant Frequency: 80MHz; Category: Power Inductors; Match Code: WE-TPC; ComponentLink1Description: Website Link; ComponentLink1URL: https://www.we-online.com/redexpert/article/744042003?ad; ComponentLink2Description: Datasheet Link; ComponentLink2URL: https://www.we-online.com/redexpert/spec/744042003?ad; Mount: Surface Mount; Operating Temperature Max: 125°C; Operating Temperature Min: -40°C; Packaging: Tape and Reel; Length: 4.8mm; Width: 4.8mm; Height: 1.8mm; DC Resistance: 50mOhm; Inductance: 3.3uH; Rated Current: 1.95A
footprint WE-TPC_4818
simulation model 4818_744042003_3.3u
pins: 1, 2

## 744042004
designator L?, comment 4.7uH, 1.72A  (value not drawn)
WE-TPC SMT Tiny Power Inductor, size 4818, 4.7uH, 1.72A, 70mOhm; Manufacturer Part Number: 744042004; Manufacturer: Wurth Elektronik; Case/Size Code: 4818; Saturation Current: 1.65A; Self Resonant Frequency: 70MHz; Category: Power Inductors; Match Code: WE-TPC; ComponentLink1Description: Website Link; ComponentLink1URL: https://www.we-online.com/redexpert/article/744042004?ad; ComponentLink2Description: Datasheet Link; ComponentLink2URL: https://www.we-online.com/redexpert/spec/744042004?ad; Mount: Surface Mount; Operating Temperature Max: 125°C; Operating Temperature Min: -40°C; Packaging: Tape and Reel; Length: 4.8mm; Width: 4.8mm; Height: 1.8mm; DC Resistance: 70mOhm; Inductance: 4.7uH; Rated Current: 1.72A
footprint WE-TPC_4818
simulation model 4818_744042004_4.7u
pins: 1, 2

## 744042005
designator L?, comment 5.6uH, 1.64A  (value not drawn)
WE-TPC SMT Tiny Power Inductor, size 4818, 5.6uH, 1.64A, 80mOhm; Manufacturer Part Number: 744042005; Manufacturer: Wurth Elektronik; Case/Size Code: 4818; Saturation Current: 1.35A; Self Resonant Frequency: 55MHz; Category: Power Inductors; Match Code: WE-TPC; ComponentLink1Description: Website Link; ComponentLink1URL: https://www.we-online.com/redexpert/article/744042005?ad; ComponentLink2Description: Datasheet Link; ComponentLink2URL: https://www.we-online.com/redexpert/spec/744042005?ad; Mount: Surface Mount; Operating Temperature Max: 125°C; Operating Temperature Min: -40°C; Packaging: Tape and Reel; Length: 4.8mm; Width: 4.8mm; Height: 1.8mm; DC Resistance: 80mOhm; Inductance: 5.6uH; Rated Current: 1.64A
footprint WE-TPC_4818
simulation model 4818_744042005_5.6u
pins: 1, 2

## 744042006
designator L?, comment 6.8uH, 1.5A  (value not drawn)
WE-TPC SMT Tiny Power Inductor, size 4818, 6.8uH, 1.5A, 80mOhm; Manufacturer Part Number: 744042006; Manufacturer: Wurth Elektronik; Case/Size Code: 4818; Saturation Current: 1.25A; Self Resonant Frequency: 60MHz; Category: Power Inductors; Match Code: WE-TPC; ComponentLink1Description: Website Link; ComponentLink1URL: https://www.we-online.com/redexpert/article/744042006?ad; ComponentLink2Description: Datasheet Link; ComponentLink2URL: https://www.we-online.com/redexpert/spec/744042006?ad; Mount: Surface Mount; Operating Temperature Max: 125°C; Operating Temperature Min: -40°C; Packaging: Tape and Reel; Length: 4.8mm; Width: 4.8mm; Height: 1.8mm; DC Resistance: 80mOhm; Inductance: 6.8uH; Rated Current: 1.5A
footprint WE-TPC_4818
simulation model 4818_744042006_6.8u
pins: 1, 2

## 744042008
designator L?, comment 8.2uH, 1.4A  (value not drawn)
WE-TPC SMT Tiny Power Inductor, size 4818, 8.2uH, 1.4A, 100mOhm; Manufacturer Part Number: 744042008; Manufacturer: Wurth Elektronik; Case/Size Code: 4818; Saturation Current: 1.1A; Self Resonant Frequency: 40MHz; Category: Power Inductors; Match Code: WE-TPC; ComponentLink1Description: Website Link; ComponentLink1URL: https://www.we-online.com/redexpert/article/744042008?ad; ComponentLink2Description: Datasheet Link; ComponentLink2URL: https://www.we-online.com/redexpert/spec/744042008?ad; Mount: Surface Mount; Operating Temperature Max: 125°C; Operating Temperature Min: -40°C; Packaging: Tape and Reel; Length: 4.8mm; Width: 4.8mm; Height: 1.8mm; DC Resistance: 100mOhm; Inductance: 8.2uH; Rated Current: 1.4A
footprint WE-TPC_4818
simulation model 4818_744042008_8.2u
pins: 1, 2

## 744042100
designator L?, comment 10uH, 1.3A  (value not drawn)
WE-TPC SMT Tiny Power Inductor, size 4818, 10uH, 1.3A, 120mOhm; Manufacturer Part Number: 744042100; Manufacturer: Wurth Elektronik; Case/Size Code: 4818; Saturation Current: 1A; Self Resonant Frequency: 45MHz; Category: Power Inductors; Match Code: WE-TPC; ComponentLink1Description: Website Link; ComponentLink1URL: https://www.we-online.com/redexpert/article/744042100?ad; ComponentLink2Description: Datasheet Link; ComponentLink2URL: https://www.we-online.com/redexpert/spec/744042100?ad; Mount: Surface Mount; Operating Temperature Max: 125°C; Operating Temperature Min: -40°C; Packaging: Tape and Reel; Length: 4.8mm; Width: 4.8mm; Height: 1.8mm; DC Resistance: 120mOhm; Inductance: 10uH; Rated Current: 1.3A
footprint WE-TPC_4818
simulation model 4818_744042100_10u
pins: 1, 2

## 744042101
designator L?, comment 100uH, 0.4A  (value not drawn)
WE-TPC SMT Tiny Power Inductor, size 4818, 100uH, 0.4A, 1170mOhm; Manufacturer Part Number: 744042101; Manufacturer: Wurth Elektronik; Case/Size Code: 4818; Saturation Current: 0.3A; Self Resonant Frequency: 10MHz; Category: Power Inductors; Match Code: WE-TPC; ComponentLink1Description: Website Link; ComponentLink1URL: https://www.we-online.com/redexpert/article/744042101?ad; ComponentLink2Description: Datasheet Link; ComponentLink2URL: https://www.we-online.com/redexpert/spec/744042101?ad; Mount: Surface Mount; Operating Temperature Max: 125°C; Operating Temperature Min: -40°C; Packaging: Tape and Reel; Length: 4.8mm; Width: 4.8mm; Height: 1.8mm; DC Resistance: 1170mOhm; Inductance: 100uH; Rated Current: 0.4A
footprint WE-TPC_4818
simulation model 4818_744042101_100u
pins: 1, 2

## 744042120
designator L?, comment 12uH, 1.15A  (value not drawn)
WE-TPC SMT Tiny Power Inductor, size 4818, 12uH, 1.15A, 150mOhm; Manufacturer Part Number: 744042120; Manufacturer: Wurth Elektronik; Case/Size Code: 4818; Saturation Current: 0.95A; Self Resonant Frequency: 40MHz; Category: Power Inductors; Match Code: WE-TPC; ComponentLink1Description: Website Link; ComponentLink1URL: https://www.we-online.com/redexpert/article/744042120?ad; ComponentLink2Description: Datasheet Link; ComponentLink2URL: https://www.we-online.com/redexpert/spec/744042120?ad; Mount: Surface Mount; Operating Temperature Max: 125°C; Operating Temperature Min: -40°C; Packaging: Tape and Reel; Length: 4.8mm; Width: 4.8mm; Height: 1.8mm; DC Resistance: 150mOhm; Inductance: 12uH; Rated Current: 1.15A
footprint WE-TPC_4818
simulation model 4818_744042120_12u
pins: 1, 2

## 744042150
designator L?, comment 15uH, 1.03A  (value not drawn)
WE-TPC SMT Tiny Power Inductor, size 4818, 15uH, 1.03A, 190mOhm; Manufacturer Part Number: 744042150; Manufacturer: Wurth Elektronik; Case/Size Code: 4818; Saturation Current: 0.75A; Self Resonant Frequency: 35MHz; Category: Power Inductors; Match Code: WE-TPC; ComponentLink1Description: Website Link; ComponentLink1URL: https://www.we-online.com/redexpert/article/744042150?ad; ComponentLink2Description: Datasheet Link; ComponentLink2URL: https://www.we-online.com/redexpert/spec/744042150?ad; Mount: Surface Mount; Operating Temperature Max: 125°C; Operating Temperature Min: -40°C; Packaging: Tape and Reel; Length: 4.8mm; Width: 4.8mm; Height: 1.8mm; DC Resistance: 190mOhm; Inductance: 15uH; Rated Current: 1.03A
footprint WE-TPC_4818
simulation model 4818_744042150_15u
pins: 1, 2

## 744042180
designator L?, comment 18uH, 0.92A  (value not drawn)
WE-TPC SMT Tiny Power Inductor, size 4818, 18uH, 0.92A, 270mOhm; Manufacturer Part Number: 744042180; Manufacturer: Wurth Elektronik; Case/Size Code: 4818; Saturation Current: 0.7A; Self Resonant Frequency: 30MHz; Category: Power Inductors; Match Code: WE-TPC; ComponentLink1Description: Website Link; ComponentLink1URL: https://www.we-online.com/redexpert/article/744042180?ad; ComponentLink2Description: Datasheet Link; ComponentLink2URL: https://www.we-online.com/redexpert/spec/744042180?ad; Mount: Surface Mount; Operating Temperature Max: 125°C; Operating Temperature Min: -40°C; Packaging: Tape and Reel; Length: 4.8mm; Width: 4.8mm; Height: 1.8mm; DC Resistance: 270mOhm; Inductance: 18uH; Rated Current: 0.92A
footprint WE-TPC_4818
simulation model 4818_744042180_18u
pins: 1, 2

## 744042220
designator L?, comment 22uH, 0.88A  (value not drawn)
WE-TPC SMT Tiny Power Inductor, size 4818, 22uH, 0.88A, 280mOhm; Manufacturer Part Number: 744042220; Manufacturer: Wurth Elektronik; Case/Size Code: 4818; Saturation Current: 0.6A; Self Resonant Frequency: 26MHz; Category: Power Inductors; Match Code: WE-TPC; ComponentLink1Description: Website Link; ComponentLink1URL: https://www.we-online.com/redexpert/article/744042220?ad; ComponentLink2Description: Datasheet Link; ComponentLink2URL: https://www.we-online.com/redexpert/spec/744042220?ad; Mount: Surface Mount; Operating Temperature Max: 125°C; Operating Temperature Min: -40°C; Packaging: Tape and Reel; Length: 4.8mm; Width: 4.8mm; Height: 1.8mm; DC Resistance: 280mOhm; Inductance: 22uH; Rated Current: 0.88A
footprint WE-TPC_4818
simulation model 4818_744042220_22u
pins: 1, 2

## 744042221
designator L?, comment 220uH, 0.2A  (value not drawn)
WE-TPC SMT Tiny Power Inductor, size 4818, 220uH, 0.2A, 2880mOhm; Manufacturer Part Number: 744042221; Manufacturer: Wurth Elektronik; Case/Size Code: 4818; Saturation Current: 0.16A; Self Resonant Frequency: 7MHz; Category: Power Inductors; Match Code: WE-TPC; ComponentLink1Description: Website Link; ComponentLink1URL: https://www.we-online.com/redexpert/article/744042221?ad; ComponentLink2Description: Datasheet Link; ComponentLink2URL: https://www.we-online.com/redexpert/spec/744042221?ad; Mount: Surface Mount; Operating Temperature Max: 125°C; Operating Temperature Min: -40°C; Packaging: Tape and Reel; Length: 4.8mm; Width: 4.8mm; Height: 1.8mm; DC Resistance: 2880mOhm; Inductance: 220uH; Rated Current: 0.2A
footprint WE-TPC_4818
simulation model 4818_744042221_220u
pins: 1, 2

## 744042330
designator L?, comment 33uH, 0.72A  (value not drawn)
WE-TPC SMT Tiny Power Inductor, size 4818, 33uH, 0.72A, 382mOhm; Manufacturer Part Number: 744042330; Manufacturer: Wurth Elektronik; Case/Size Code: 4818; Saturation Current: 0.5A; Self Resonant Frequency: 21MHz; Category: Power Inductors; Match Code: WE-TPC; ComponentLink1Description: Website Link; ComponentLink1URL: https://www.we-online.com/redexpert/article/744042330?ad; ComponentLink2Description: Datasheet Link; ComponentLink2URL: https://www.we-online.com/redexpert/spec/744042330?ad; Mount: Surface Mount; Operating Temperature Max: 125°C; Operating Temperature Min: -40°C; Packaging: Tape and Reel; Length: 4.8mm; Width: 4.8mm; Height: 1.8mm; DC Resistance: 382mOhm; Inductance: 33uH; Rated Current: 0.72A
footprint WE-TPC_4818
simulation model 4818_744042330_33u
pins: 1, 2

## 744042331
designator L?, comment 330uH, 0.15A  (value not drawn)
WE-TPC SMT Tiny Power Inductor, size 4818, 330uH, 0.15A, 4100mOhm; Manufacturer Part Number: 744042331; Manufacturer: Wurth Elektronik; Case/Size Code: 4818; Saturation Current: 0.13A; Self Resonant Frequency: 5.5MHz; Category: Power Inductors; Match Code: WE-TPC; ComponentLink1Description: Website Link; ComponentLink1URL: https://www.we-online.com/redexpert/article/744042331?ad; ComponentLink2Description: Datasheet Link; ComponentLink2URL: https://www.we-online.com/redexpert/spec/744042331?ad; Mount: Surface Mount; Operating Temperature Max: 125°C; Operating Temperature Min: -40°C; Packaging: Tape and Reel; Length: 4.8mm; Width: 4.8mm; Height: 1.8mm; DC Resistance: 4100mOhm; Inductance: 330uH; Rated Current: 0.15A
footprint WE-TPC_4818
simulation model 4818_744042331_330u
pins: 1, 2

## 744042470
designator L?, comment 47uH, 0.62A  (value not drawn)
WE-TPC SMT Tiny Power Inductor, size 4818, 47uH, 0.62A, 540mOhm; Manufacturer Part Number: 744042470; Manufacturer: Wurth Elektronik; Case/Size Code: 4818; Saturation Current: 0.45A; Self Resonant Frequency: 15MHz; Category: Power Inductors; Match Code: WE-TPC; ComponentLink1Description: Website Link; ComponentLink1URL: https://www.we-online.com/redexpert/article/744042470?ad; ComponentLink2Description: Datasheet Link; ComponentLink2URL: https://www.we-online.com/redexpert/spec/744042470?ad; Mount: Surface Mount; Operating Temperature Max: 125°C; Operating Temperature Min: -40°C; Packaging: Tape and Reel; Length: 4.8mm; Width: 4.8mm; Height: 1.8mm; DC Resistance: 540mOhm; Inductance: 47uH; Rated Current: 0.62A
footprint WE-TPC_4818
simulation model 4818_744042470_47u
pins: 1, 2

## 744042680
designator L?, comment 68uH, 0.5A  (value not drawn)
WE-TPC SMT Tiny Power Inductor, size 4818, 68uH, 0.5A, 715mOhm; Manufacturer Part Number: 744042680; Manufacturer: Wurth Elektronik; Case/Size Code: 4818; Saturation Current: 0.38A; Self Resonant Frequency: 13MHz; Category: Power Inductors; Match Code: WE-TPC; ComponentLink1Description: Website Link; ComponentLink1URL: https://www.we-online.com/redexpert/article/744042680?ad; ComponentLink2Description: Datasheet Link; ComponentLink2URL: https://www.we-online.com/redexpert/spec/744042680?ad; Mount: Surface Mount; Operating Temperature Max: 125°C; Operating Temperature Min: -40°C; Packaging: Tape and Reel; Length: 4.8mm; Width: 4.8mm; Height: 1.8mm; DC Resistance: 715mOhm; Inductance: 68uH; Rated Current: 0.5A
footprint WE-TPC_4818
simulation model 4818_744042680_68u
pins: 1, 2

## 744043003
designator L?, comment 3.3uH, 2.15A  (value not drawn)
WE-TPC SMT Tiny Power Inductor, size 4828, 3.3uH, 2.15A, 30mOhm; Manufacturer Part Number: 744043003; Manufacturer: Wurth Elektronik; Case/Size Code: 4828; Saturation Current: 1.8A; Self Resonant Frequency: 80MHz; Category: Power Inductors; Match Code: WE-TPC; ComponentLink1Description: Website Link; ComponentLink1URL: https://www.we-online.com/redexpert/article/744043003?ad; ComponentLink2Description: Datasheet Link; ComponentLink2URL: https://www.we-online.com/redexpert/spec/744043003?ad; Mount: Surface Mount; Operating Temperature Max: 125°C; Operating Temperature Min: -40°C; Packaging: Tape and Reel; Length: 4.8mm; Width: 4.8mm; Height: 2.8mm; DC Resistance: 30mOhm; Inductance: 3.3uH; Rated Current: 2.15A
footprint WE-TPC_4828
simulation model 4828_744043003_3.3u
pins: 1, 2

## 744043004
designator L?, comment 4.7uH, 1.55A  (value not drawn)
WE-TPC SMT Tiny Power Inductor, size 4828, 4.7uH, 1.55A, 50mOhm; Manufacturer Part Number: 744043004; Manufacturer: Wurth Elektronik; Case/Size Code: 4828; Saturation Current: 1.7A; Self Resonant Frequency: 60MHz; Category: Power Inductors; Match Code: WE-TPC; ComponentLink1Description: Website Link; ComponentLink1URL: https://www.we-online.com/redexpert/article/744043004?ad; ComponentLink2Description: Datasheet Link; ComponentLink2URL: https://www.we-online.com/redexpert/spec/744043004?ad; Mount: Surface Mount; Operating Temperature Max: 125°C; Operating Temperature Min: -40°C; Packaging: Tape and Reel; Length: 4.8mm; Width: 4.8mm; Height: 2.8mm; DC Resistance: 50mOhm; Inductance: 4.7uH; Rated Current: 1.55A
footprint WE-TPC_4828
simulation model 4828_744043004_4.7u
pins: 1, 2